# Altium schematic symbol library MCP6062.SchLib: 1 symbol
Pins are listed as number, name and electrical type; pins without a type are passive.

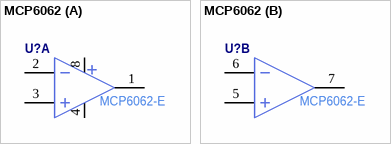
[diagram p0: symbol MCP6062]

## MCP6062
designator U?  Manufacturer Part Number: MCP6062-E  (hidden comment: *)
part A pins: 1 VOUTA, 2 VINA–, 3 VINA+, 4 VSS, 8 VDD (power)
part B pins: 5 VINB+, 6 VINB–, 7 VOUTB